# EAGLE library part ER-OLED0.91-1 (library BERGCloud-OSH)
1.9" 128x32 pixel OLED display of types: ER-OLED0.91-1 UG-2832HSWEG04 Created by AH. BERG Cloud <http://www.bergcloud.com>
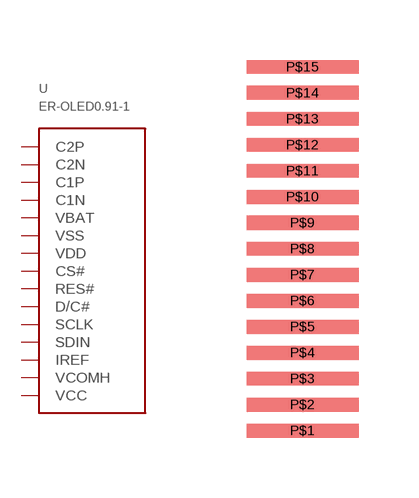
[diagram p4: symbol with the pads of FPC15WAYOLED; footprint FPC15WAYOLED]

Designator prefix -

## ER-OLED0.91-1HANDSOLDER_BOTTOMLAYER  [FPC15WAYOLED]
P$1  C2P
P$2  C2N
P$3  C1P
P$4  C1N
P$5  VBAT
P$6  VSS
P$7  VDD
P$8  CS#
P$9  RES#
P$10  D/C#
P$11  SCLK
P$12  SDIN
P$13  IREF
P$14  VCOMH
P$15  VCC

## Footprint FPC15WAYOLED (pad centres in mm)
smd 2.8 x 0.35: P$1 0,-4.55; P$2 0,-3.9; P$3 0,-3.25; P$4 0,-2.6; P$5 0,-1.95; P$6 0,-1.3; P$7 0,-0.65; P$8 0,0; P$9 0,0.65; P$10 0,1.3; P$11 0,1.95; P$12 0,2.6; P$13 0,3.25; P$14 0,3.9; P$15 0,4.55